# Altium footprint library Train2.PCBLIB: 223 footprints (part 5 of 14)
Each footprint in its own frame and in the unit in brackets; x right, y up, seen from the top. Pads: shape width x height; smd on the part's side, far side on the other; paste and mask are expansions set on the pad; w line width, h text height; cw(c..) or ccw(c..) is an arc to the next point about the centre after c.
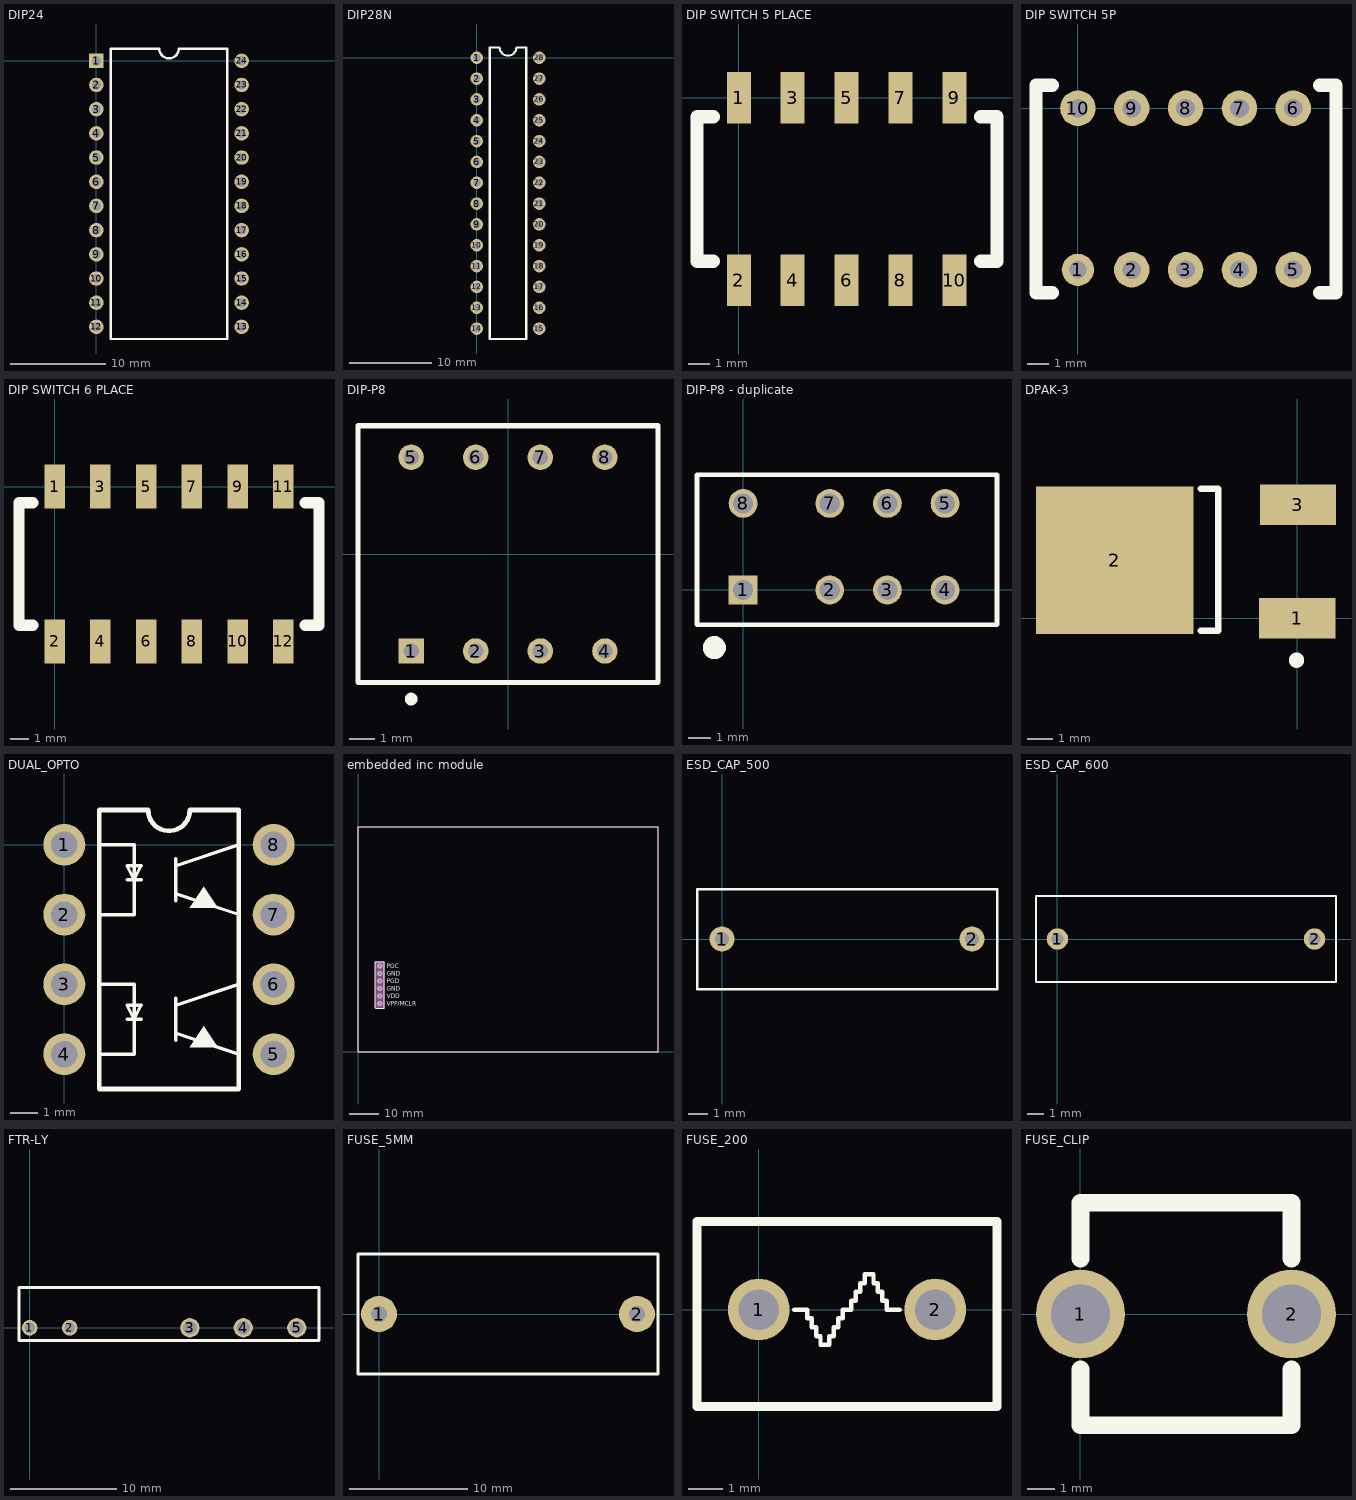
[diagram p4: the footprints below, top view; thin cyan lines are the x and y axes]

## DIP24 [mil]
pads (24):
  rect 60x60 hole 38: 1(0,0)
  round 60 hole 38: 2(0,-100) 3(0,-200) 4(0,-300) 5(0,-400) 6(0,-500) 7(0,-600) 8(0,-700) 9(0,-800) 10(0,-900) 11(0,-1000) 12(0,-1100) 13(600,-1100) 14(600,-1000) 15(600,-900) 16(600,-800) 17(600,-700) 18(600,-600) 19(600,-500) 20(600,-400) 21(600,-300) 22(600,-200) 23(600,-100) 24(600,0)
Top Overlay:
  lines w10: 60,-1150 540,-1150 540,50 340,50 cw(c300,50) 260,50 60,50 60,-1150

## DIP28N [mil]
pads (28):
  round 60 hole 38: 1(0,0) 2(0,-100) 3(0,-200) 4(0,-300) 5(0,-400) 6(0,-500) 7(0,-600) 8(0,-700) 9(0,-800) 10(0,-900) 11(0,-1000) 12(0,-1100) 13(0,-1200) 14(0,-1300) 15(300,-1300) 16(300,-1200) 17(300,-1100) 18(300,-1000) 19(300,-900) 20(300,-800) 21(300,-700) 22(300,-600) 23(300,-500) 24(300,-400) 25(300,-300) 26(300,-200) 27(300,-100) 28(300,0)
Top Overlay:
  lines w10: 62.5,-1350 237.5,-1350 237.5,50 190,50 cw(c150,50) 110,50 62.5,50 62.5,-1350

## DIP SWITCH 5 PLACE [mm] "SMD 5 PLACE DIP SWITCH"
height 4
pads (10):
  rect 1.13x2.44 smd: 1(0,0) 2(0,-8.6) 3(2.54,0) 4(2.54,-8.6) 5(5.08,0) 6(5.08,-8.6) 7(7.62,0) 8(7.62,-8.6) 9(10.16,0) 10(10.16,-8.6)
Top Overlay:
  lines w0.635: -1.2,-7.7 -1.975,-7.7 -1.975,-0.9 -1.2,-0.9 ; 11.4,-7.7 12.175,-7.7 12.175,-0.9 11.4,-0.9

## DIP SWITCH 5P [mil] "5 PLACE DIP SWITCH"
height 157.48
pads (10):
  round 60 hole 32: 1(0,-300)
  round 66 hole 35: 2(100,-300) 3(200,-300) 4(300,-300) 5(400,-300) 6(400,0) 7(300,0) 8(200,0) 9(100,0) 10(0,0)
Top Overlay:
  lines w25: -47.24,-342.5 -77.76,-342.5 -77.76,42.5 -47.24,42.5 ; 448.82,-342.5 479.33,-342.5 479.33,42.5 448.82,42.5

## DIP SWITCH 6 PLACE [mm] "SMD 6 PLACE DIP SWITCH"
pads (12):
  rect 1.13x2.44 smd: 1(0,0) 2(0,-8.6) 3(2.54,0) 4(2.54,-8.6) 5(5.08,0) 6(5.08,-8.6) 7(7.62,0) 8(7.62,-8.6) 9(10.16,0) 10(10.16,-8.6) 11(12.7,0) 12(12.7,-8.6)
Top Overlay:
  lines w0.635: -1.2,-7.7 -1.975,-7.7 -1.975,-0.9 -1.2,-0.9 ; 13.9,-7.7 14.675,-7.7 14.675,-0.9 13.9,-0.9

## DIP-P8 [mm] "Dual-Pole Dual-Throw Relay; 8 Leads"
pads (8):
  rect 1x1 hole 0.6: 1(-3.81,-3.81)
  round 1 hole 0.6: 2(-1.27,-3.81) 3(1.27,-3.81) 4(3.81,-3.81) 5(-3.81,3.81) 6(-1.27,3.81) 7(1.27,3.81) 8(3.81,3.81)
Top Overlay:
  circle w0.25: c-3.81,-5.7 r0.125
  lines w0.2: -5.9,-5.05 -5.9,-0.635 -5.9,5.05 5.9,5.05 5.9,-5.05 -5.9,-5.05

## DIP-P8 - duplicate [mil] "DIP"
height 551.18
pads (8):
  rect 50x50 hole 35: 1(0,0)
  round 50 hole 35: 2(150,0) 3(250,0) 4(350,0) 5(350,150) 6(250,150) 7(150,150) 8(0,150)
Top Overlay:
  circle w20: c-50,-100 r10
  lines w7.87: -80,-60 440,-60 440,200 -80,200 -80,-60
Mechanical 13:
  lines w3.94: -80,-60 -80,200 440,200 440,-60 -80,-60

## DPAK-3 [mm]
pads (3):
  rect 3x1.6 smd: 1(0,0) 3(0.025,4.47)
  rect 6.2x5.8 smd: 2(-7.18,2.285)
Top Overlay:
  circle w0.5: c-0.026,-1.65 r0.051
  lines w0.254: -3.8,-0.5 -3.1,-0.5 -3.1,5.1 -3.8,5.1

## DUAL_OPTO [mil]
pads (8):
  round 60 hole 38: 1(0,0) 2(0,-100) 3(0,-200) 4(0,-300) 5(300,-300) 6(300,-200) 7(300,-100) 8(300,0)
Top Overlay:
  region: 220,-90 200,-60 180,-90
  region: 220,-290 200,-260 180,-290
  lines w5: 50,-300 100,-300 100,-200 50,-200 ; 50,-100 100,-100 100,0 50,0 ; 90,-250 110,-250 ; 90,-50 110,-50 ; 160,-280 160,-220 ; 160,-270 250,-300 ; 160,-230 250,-200 ; 160,-80 160,-20 ; 160,-70 250,-100 ; 160,-30 250,0 ; 90,-230 100,-250 110,-230 90,-230 ; 90,-30 100,-50 110,-30 90,-30
  lines w7: 50,-350 250,-350 250,50 180,50 cw(c150,50) 120,50 50,50 50,-350

## embedded inc module [mil] "Embedded Inc PIC Programming Module"
height 900
pads (6):
  round 70 hole 44: 1(290,640) 2(290,740) 3(290,840) 4(290,940) 5(290,1040) 6(290,1140)
Top Overlay:
  lines w5: 230,584.96 236.22,578.74 350,578.74 350,1200 236.22,1200 230,1193.78
  lines w7: 0,0 0,3000 4000,3000 4000,0 0,0
  lines w9.84: 230,584.96 230,1193.78
  text "GND" at 380,1010 h60
  text "GND" at 380,810 h60
  text "VDD" at 380,710 h60
  text "VPP/MCLR" at 380,610 h60
  text "PGD" at 380,910 h60
  text "PGC" at 380,1110 h60
Keep-Out Layer:
  lines w7: 0,0 4000,0 4000,3000 0,3000 0,0
Mechanical 1:
  pour cut-out: 230,1030 230,580 350,580 350,1030 350,1200 230,1200
3D body "LED 5MM.STEP": height 319.88, standoff -810.04, extent 72.88,1832.88 307.13,2053.94

## ESD_CAP_500 [mil]
pads (2):
  round 50 hole 28: 1(0,0) 2(500,0)
Top Overlay:
  lines w5: -50,-100 550,-100 550,100 -50,100 -50,-100

## ESD_CAP_600 [mil]
pads (2):
  round 50 hole 28: 1(0,0) 2(600,0)
Top Overlay:
  lines w5: -50,-100 -50,100 650,100 650,-100 -50,-100

## FTR-LY [mm] "1 POLE - 6A SLIM FORM C RELAY"
height 15
pads (5):
  round 1.47 hole 1: 1(0,0) 2(3.78,0)
  round 1.82 hole 1.3: 3(15.12,0) 4(20.16,0) 5(25.2,0)
Top Overlay:
  lines w0.254: -1,-1.2 27.3,-1.2 27.3,3.8 -1,3.8 -1,-1.2

## FUSE_5MM [mil]
pads (2):
  round 120 hole 52: 1(0,0) 2(860,0)
Top Overlay:
  lines w10: -70,-200 -70,200 930,200 930,-200 -70,-200

## FUSE_200 [mil]
pads (2):
  round 70 hole 46: 1(0,0) 2(200,0)
Top Overlay:
  lines w5: 40,0 50,0 55,0 55,-10 60,-10 60,-20 65,-20 65,-30 70,-30 70,-40 80,-40 80,-30 85,-30 85,-20 90,-20 90,-10 95,-10 95,0 105,0 105,10 110,10 110,20 115,20 115,30 120,30 120,40 130,40 130,30 135,30 135,20 140,20 140,10 145,10 145,0 150,0 160,0
  lines w10: -70,-110 270,-110 270,100 -70,100 -70,-110

## FUSE_CLIP [mm]
pads (2):
  round 3.2 hole 2.13: 1(0,0) 2(7.6,0)
Top Overlay:
  lines w0.635: 0,-2 0,-4 7.6,-4 7.6,-2 ; 0,2 0,4 7.6,4 7.6,2